# Altium schematic symbol library Zener.SchLib: 4 symbols
Pins are listed as number, name and electrical type; pins without a type are passive.

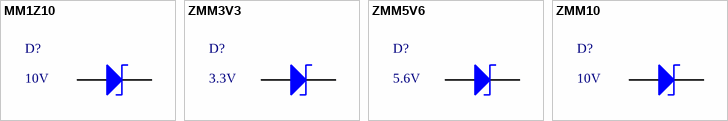
[diagram p0: symbols MM1Z10 to ZMM10]

## MM1Z10
designator D?, comment 10V
稳压二极管; ComponentLink1Description: 供应商链接; ComponentLink1URL: https://item.szlcsc.com/108810.html; Package: SOD-123; Supplier: LC; SuppliersPartNumber: C107591
footprint sod-123
pins: 1 A, 2 K

## ZMM3V3
designator D?, comment 3.3V
稳压二极管; ComponentLink1Description: 供应商链接; ComponentLink1URL: http://www.szlcsc.com/product/details_8535.html; Package: LL-34; Supplier: LC; SuppliersPartNumber: C8056
footprint LL-34
pins: 1 A, 2 K

## ZMM5V6
designator D?, comment 5.6V
稳压二极管; ComponentLink1Description: 供应商链接; ComponentLink1URL: http://www.szlcsc.com/product/details_8541.html; Package: LL-34; Supplier: LC; SuppliersPartNumber: C8062
footprint LL-34
pins: 1 A, 2 K

## ZMM10
designator D?, comment 10V
稳压二极管; ComponentLink1Description: 供应商链接; ComponentLink1URL: https://item.szlcsc.com/192467.html; Package: LL-34; Supplier: LC; SuppliersPartNumber: C181070
footprint LL-34
pins: 1 A, 2 K